# EAGLE library part DS600 (library dallas600)
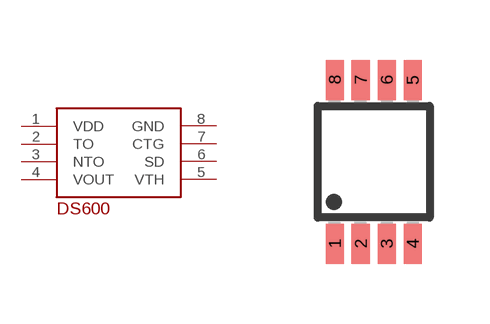
[diagram p0: symbol with the pads of MSOP8; footprint MSOP8]

Designator prefix -

## DS600  [MSOP8]
1  VDD  pwr
2  TO  out
3  NTO  out
4  VOUT  out
5  VTH
6  SD  out
7  CTG  in
8  GND  pwr

## Footprint MSOP8 (pad centres in mm)
smd 0.45 x 1: 1 -0.975,-2.05; 2 -0.325,-2.05; 3 0.325,-2.05; 4 0.975,-2.05; 5 0.975,2.05; 6 0.325,2.05; 7 -0.325,2.05; 8 -0.975,2.05